# EAGLE library part SN74LVC138APWRE4 (library SamacSys_Parts)
Encoders, Decoders, Multiplexers & Demultiplexers 3-Line to 8-Line Decoder/Demltplxr Source: Datasheet <https://www.ti.com/general/docs/suppproductinfo.tsp?distId=10&gotoUrl=https://www.ti.com/lit/gpn/sn74lvc138a>
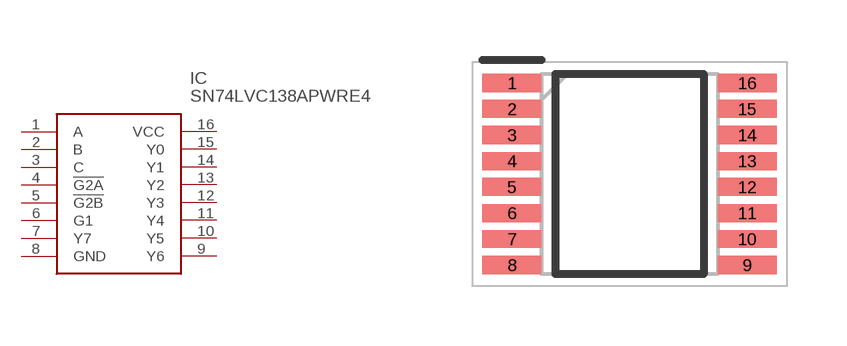
[diagram p19: symbol with the pads of SOP65P640X120-16N; footprint SOP65P640X120-16N]

Designator prefix IC

## SN74LVC138APWRE4 (DESCRIPTION: Encoders, Decoders, Multiplexers & Demultiplexers 3-Line to 8-Line Decoder/Demltplxr; HEIGHT: 1.2mm; MANUFACTURER_NAME: Texas Instruments; MANUFACTURER_PART_NUMBER: SN74LVC138APWRE4; MOUSER_PART_NUMBER: 595-SN74LVC138APWRE4; MOUSER_PRICE-STOCK: https://www.mouser.co.uk/ProductDetail/Texas-Instruments/SN74LVC138APWRE4?qs=dT9u2OTAaVUKJPAd1Fc5bQ%3D%3D)  [SOP65P640X120-16N]
1  A
2  B
3  C
4  !G2A
5  !G2B
6  G1
7  Y7
8  GND
9  Y6
10  Y5
11  Y4
12  Y3
13  Y2
14  Y1
15  Y0
16  VCC

## Footprint SOP65P640X120-16N (pad centres in mm)
PW0016A
smd 1.475 x 0.45: 1 -2.938,2.275; 2 -2.938,1.625; 3 -2.938,0.975; 4 -2.938,0.325; 5 -2.938,-0.325; 6 -2.938,-0.975; 7 -2.938,-1.625; 8 -2.938,-2.275; 9 2.938,-2.275; 10 2.938,-1.625; 11 2.938,-0.975; 12 2.938,-0.325; 13 2.938,0.325; 14 2.938,0.975; 15 2.938,1.625; 16 2.938,2.275